# Altium schematic symbol library TPS61089x.SchLib: 1 symbol
Pins are listed as number, name and electrical type; pins without a type are passive.

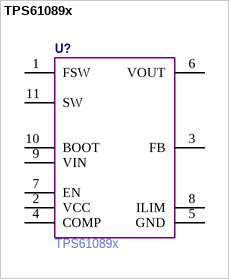
[diagram p0: symbol TPS61089x]

## TPS61089x
designator U?  Manufacturer Part Number: TPS61089x  (hidden comment: *)
pins: 1 FSW, 2 VCC, 3 FB, 4 COMP, 5 GND, 6 VOUT, 7 EN, 8 ILIM, 9 VIN, 10 BOOT, 11 SW